# Altium integrated library Linear Technology Power Management uModule Regulators.IntLib: 166 symbols (part 53 of 67)
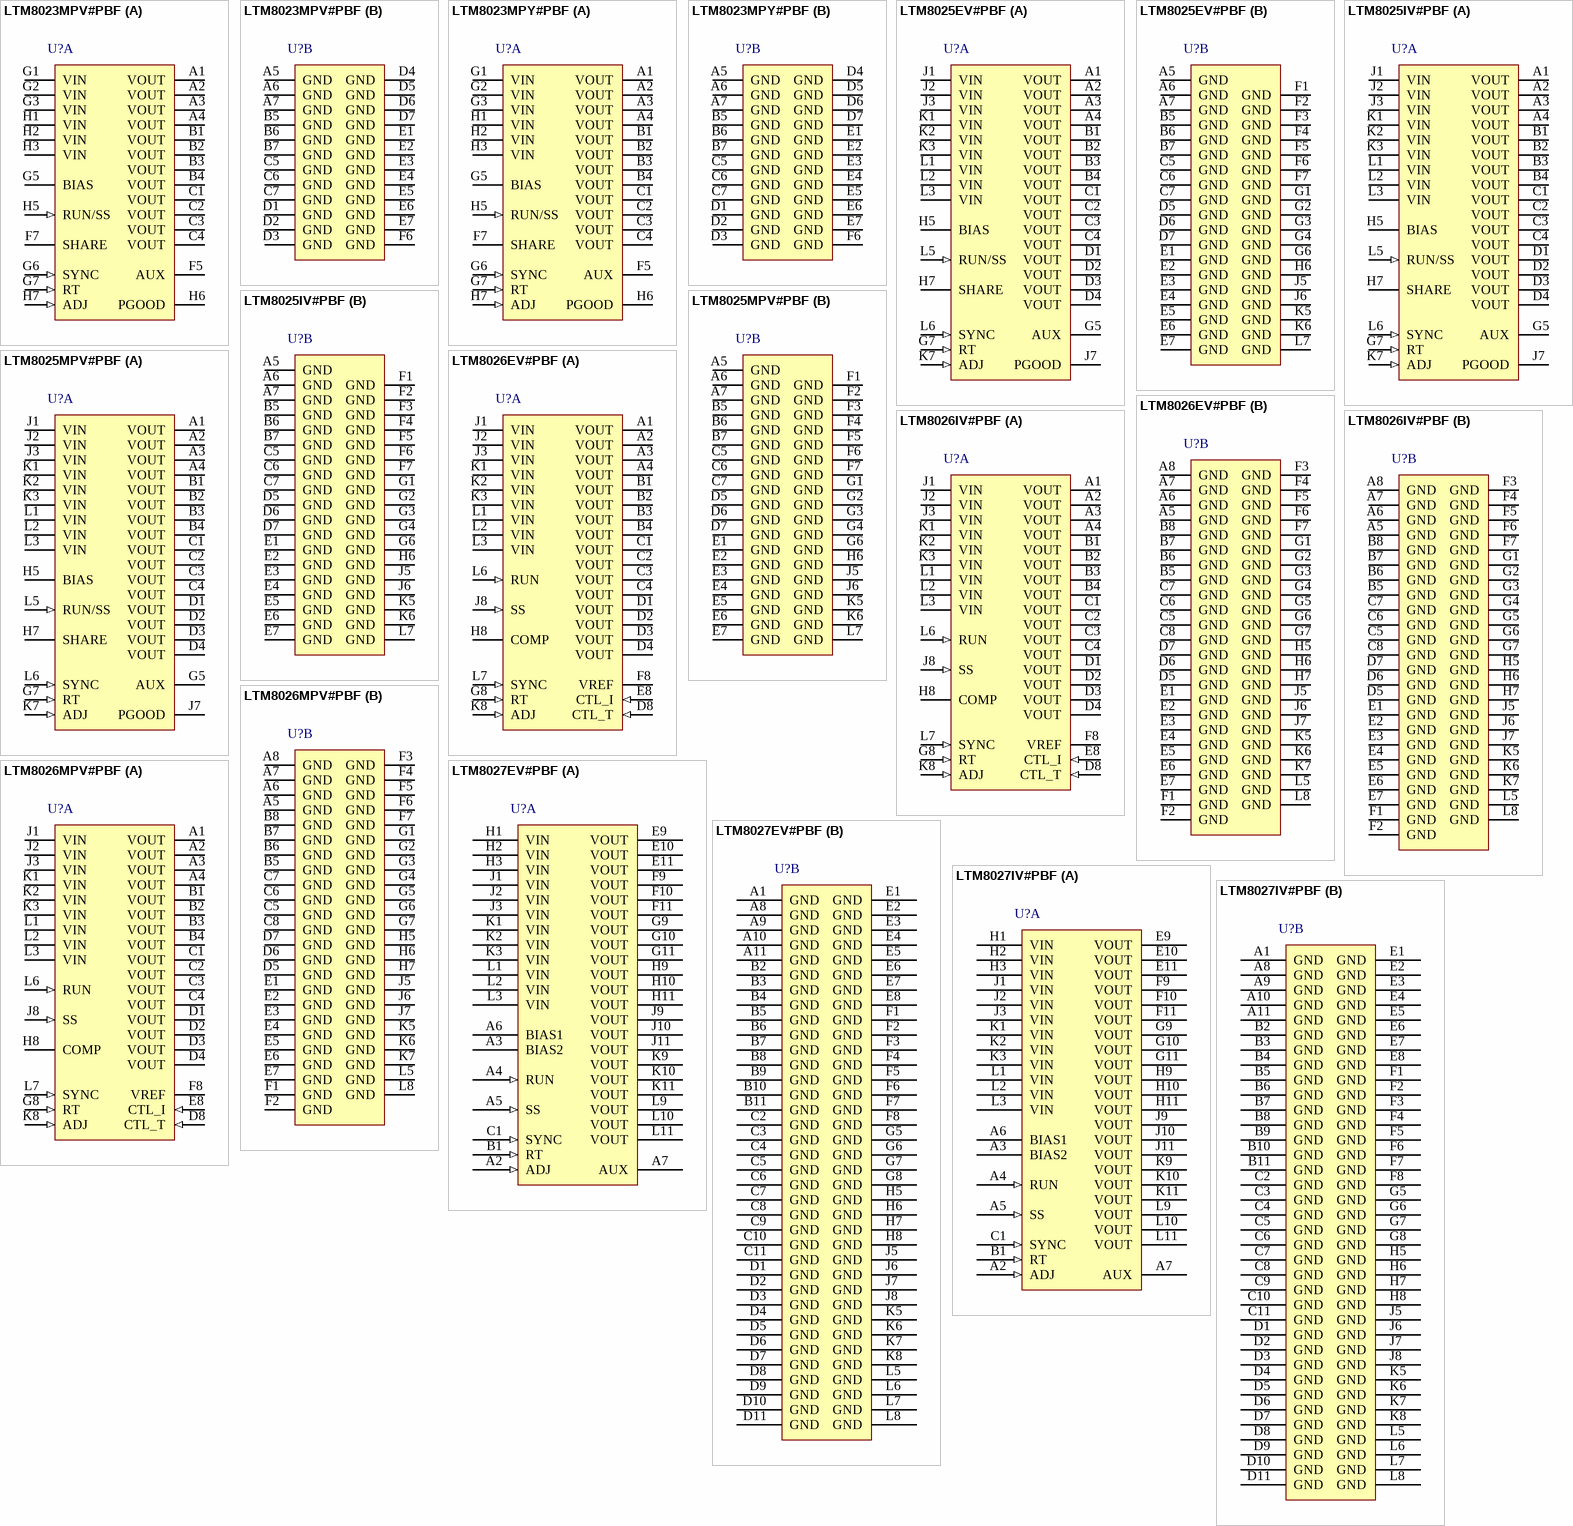
[diagram p79: symbols LTM8023MPV#PBF to LTM8027IV#PBF]

## LTM8026IV#PBF
designator U?
36 VIN, 5 A CVCC Step-Down uModule Regulator, 81-pin LGA, -40 to 125 degC, Pb-Free, Tray; Manufacturer: Linear Technology; PartNumber: LTM8026IV#PBF; Extended Temp: E, I, MP; Frequency Adjust Range: 100kHz - 1MHz; Frequency(kHz): 1000; Ishutdown(uA): 0.1; Isupply(mA): 2; Number of Outputs: 1; Output Current(A): 5; Switch Current(A): 5.6; Synchronous: no; Topology: Buck; Vin Max(V): 36; Vin Min(V): 6; Vout Max(V): 24; Vout Min(V): 1.2; DatasheetVersion: Rev. B; PackageVersion: Rev. A, 01/2013; PackageReference: LGA-81; PackageDescription: 81-Pin LGA, Body 15 x 11.25 mm, Pitch 1.27 mm; Supplier 1: Digi-Key; Supplier Part Number 1: LTM8026IV#PBF-ND; Supplier 2: Farnell; Supplier Part Number 2: 2115894; Supplier 3: Newark; Supplier Part Number 3: 78T1493; Frequency Sync Range: 100kHz - 1MHz; Packing: Tray; RoHS: TRUE; Tracking: no; Mounting Technology: Surface Mount; Code_JEDEC: MO-222; ComponentLink1Description: Manufacturer URL; ComponentLink1URL: http://www.linear.com/; ComponentLink2Description: Datasheet; ComponentLink2URL: http://cds.linear.com/docs/en/datasheet/8026fb.pdf; ComponentLink3Description: Package Specification; ComponentLink3URL: http://cds.linear.com/docs/en/packaging/05081868_A_lga81.pdf
footprint LT-LGA-81-15000X11250X2820_V (LGA, 81-Leads, Body 15x11.25mm, Pitch 1.27mm)
part A pins: A1 VOUT (power) "Power Output Pins. Apply the output filter capacitor and the output load between these pins and GND pins.", A2 VOUT (power) "Power Output Pins. Apply the output filter capacitor and the output load between these pins and GND pins.", A3 VOUT (power) "Power Output Pins. Apply the output filter capacitor and the output load between these pins and GND pins.", A4 VOUT (power) "Power Output Pins. Apply the output filter capacitor and the output load between these pins and GND pins.", B1 VOUT (power) "Power Output Pins. Apply the output filter capacitor and the output load between these pins and GND pins.", B2 VOUT (power) "Power Output Pins. Apply the output filter capacitor and the output load between these pins and GND pins.", B3 VOUT (power) "Power Output Pins. Apply the output filter capacitor and the output load between these pins and GND pins.", B4 VOUT (power) "Power Output Pins. Apply the output filter capacitor and the output load between these pins and GND pins.", C1 VOUT (power) "Power Output Pins. Apply the output filter capacitor and the output load between these pins and GND pins.", C2 VOUT (power) "Power Output Pins. Apply the output filter capacitor and the output load between these pins and GND pins.", C3 VOUT (power) "Power Output Pins. Apply the output filter capacitor and the output load between these pins and GND pins.", C4 VOUT (power) "Power Output Pins. Apply the output filter capacitor and the output load between these pins and GND pins.", D1 VOUT (power) "Power Output Pins. Apply the output filter capacitor and the output load between these pins and GND pins.", D2 VOUT (power) "Power Output Pins. Apply the output filter capacitor and the output load between these pins and GND pins.", D3 VOUT (power) "Power Output Pins. Apply the output filter capacitor and the output load between these pins and GND pins.", D4 VOUT (power) "Power Output Pins. Apply the output filter capacitor and the output load between these pins and GND pins.", D8 CTL_T (in) "Connect a resistor/NTC thermistor network to the CTL_T pin to reduce the maximum regulated output current of the LTM8026 in response to temperature. The maximum control voltage is 1.5V. If this function is not used, tie this (See Datasheet)", E8 CTL_I (in) "The CTL_I pin reduces the maximum regulated output current of the LTM8026. The maximum control voltage is 1.5V. If this function is not used, tie this pin to VREF .", F8 VREF "Buffered 2V Reference Capable of 0.5mA Drive.", G8 RT (in) "The RT pin is used to program the switching frequency of the LTM8026 by connecting a resistor from this pin to ground. The Applications Information section of the data sheet includes a table to determine the resistance value (See Datasheet)", H8 COMP "Compensation Pin. This pin is generally not used. The LTM8026 is internally compensated, but some rare situations may arise that require a modification to the control loop. This pin connects directly to the PWM comparator of (See Datasheet)", J1 VIN (power) "The VIN pins supply current to the LTM8026’s internal regulator and to the internal power switches. These pins must be locally bypassed with an external, low ESR capacitor; see Table 1 for recommended values.", J2 VIN (power) "The VIN pins supply current to the LTM8026’s internal regulator and to the internal power switches. These pins must be locally bypassed with an external, low ESR capacitor; see Table 1 for recommended values.", J3 VIN (power) "The VIN pins supply current to the LTM8026’s internal regulator and to the internal power switches. These pins must be locally bypassed with an external, low ESR capacitor; see Table 1 for recommended values.", J8 SS (in) "The Soft-Start Pin. Place an external capacitor to ground to limit the regulated current during start-up conditions. The soft-start pin has an 11uA charging current.", K1 VIN (power) "The VIN pins supply current to the LTM8026’s internal regulator and to the internal power switches. These pins must be locally bypassed with an external, low ESR capacitor; see Table 1 for recommended values.", K2 VIN (power) "The VIN pins supply current to the LTM8026’s internal regulator and to the internal power switches. These pins must be locally bypassed with an external, low ESR capacitor; see Table 1 for recommended values.", K3 VIN (power) "The VIN pins supply current to the LTM8026’s internal regulator and to the internal power switches. These pins must be locally bypassed with an external, low ESR capacitor; see Table 1 for recommended values.", K8 ADJ (in) "The LTM8026 regulates its ADJ pin to 1.19V. Connect the adjust resistor from this pin to ground", L1 VIN (power) "The VIN pins supply current to the LTM8026’s internal regulator and to the internal power switches. These pins must be locally bypassed with an external, low ESR capacitor; see Table 1 for recommended values.", L2 VIN (power) "The VIN pins supply current to the LTM8026’s internal regulator and to the internal power switches. These pins must be locally bypassed with an external, low ESR capacitor; see Table 1 for recommended values.", L3 VIN (power) "The VIN pins supply current to the LTM8026’s internal regulator and to the internal power switches. These pins must be locally bypassed with an external, low ESR capacitor; see Table 1 for recommended values.", L6 RUN (in) "The RUN pin acts as an enable pin and turns on the internal circuitry. The RUN pin is internally clamped, so it may be pulled up to a voltage source that is higher than the absolute maximum voltage of 6V through a resistor, (See Datasheet)", L7 SYNC (in) "Frequency Synchronization Pin. This pin allows the switching frequency to be synchronized to an external clock. The RT resistor should be chosen to operate the internal clock at 20% lower than the SYNC pulse frequency. This (See Datasheet)"
part B pins: A5 GND (power) "Tie these GND pins to a local ground plane below the LTM8026 and the circuit components. In most applications, the bulk of the heat flow out of the LTM8026 is through these pads, so the printed circuit design has a large (See Datasheet)", A6 GND (power) "Tie these GND pins to a local ground plane below the LTM8026 and the circuit components. In most applications, the bulk of the heat flow out of the LTM8026 is through these pads, so the printed circuit design has a large (See Datasheet)", A7 GND (power) "Tie these GND pins to a local ground plane below the LTM8026 and the circuit components. In most applications, the bulk of the heat flow out of the LTM8026 is through these pads, so the printed circuit design has a large (See Datasheet)", A8 GND (power) "Tie these GND pins to a local ground plane below the LTM8026 and the circuit components. In most applications, the bulk of the heat flow out of the LTM8026 is through these pads, so the printed circuit design has a large (See Datasheet)", B5 GND (power) "Tie these GND pins to a local ground plane below the LTM8026 and the circuit components. In most applications, the bulk of the heat flow out of the LTM8026 is through these pads, so the printed circuit design has a large (See Datasheet)", B6 GND (power) "Tie these GND pins to a local ground plane below the LTM8026 and the circuit components. In most applications, the bulk of the heat flow out of the LTM8026 is through these pads, so the printed circuit design has a large (See Datasheet)", B7 GND (power) "Tie these GND pins to a local ground plane below the LTM8026 and the circuit components. In most applications, the bulk of the heat flow out of the LTM8026 is through these pads, so the printed circuit design has a large (See Datasheet)", B8 GND (power) "Tie these GND pins to a local ground plane below the LTM8026 and the circuit components. In most applications, the bulk of the heat flow out of the LTM8026 is through these pads, so the printed circuit design has a large (See Datasheet)", C5 GND (power) "Tie these GND pins to a local ground plane below the LTM8026 and the circuit components. In most applications, the bulk of the heat flow out of the LTM8026 is through these pads, so the printed circuit design has a large (See Datasheet)", C6 GND (power) "Tie these GND pins to a local ground plane below the LTM8026 and the circuit components. In most applications, the bulk of the heat flow out of the LTM8026 is through these pads, so the printed circuit design has a large (See Datasheet)", C7 GND (power) "Tie these GND pins to a local ground plane below the LTM8026 and the circuit components. In most applications, the bulk of the heat flow out of the LTM8026 is through these pads, so the printed circuit design has a large (See Datasheet)", C8 GND (power) "Tie these GND pins to a local ground plane below the LTM8026 and the circuit components. In most applications, the bulk of the heat flow out of the LTM8026 is through these pads, so the printed circuit design has a large (See Datasheet)", D5 GND (power) "Tie these GND pins to a local ground plane below the LTM8026 and the circuit components. In most applications, the bulk of the heat flow out of the LTM8026 is through these pads, so the printed circuit design has a large (See Datasheet)", D6 GND (power) "Tie these GND pins to a local ground plane below the LTM8026 and the circuit components. In most applications, the bulk of the heat flow out of the LTM8026 is through these pads, so the printed circuit design has a large (See Datasheet)", D7 GND (power) "Tie these GND pins to a local ground plane below the LTM8026 and the circuit components. In most applications, the bulk of the heat flow out of the LTM8026 is through these pads, so the printed circuit design has a large (See Datasheet)", E1 GND (power) "Tie these GND pins to a local ground plane below the LTM8026 and the circuit components. In most applications, the bulk of the heat flow out of the LTM8026 is through these pads, so the printed circuit design has a large (See Datasheet)", E2 GND (power) "Tie these GND pins to a local ground plane below the LTM8026 and the circuit components. In most applications, the bulk of the heat flow out of the LTM8026 is through these pads, so the printed circuit design has a large (See Datasheet)", E3 GND (power) "Tie these GND pins to a local ground plane below the LTM8026 and the circuit components. In most applications, the bulk of the heat flow out of the LTM8026 is through these pads, so the printed circuit design has a large (See Datasheet)", E4 GND (power) "Tie these GND pins to a local ground plane below the LTM8026 and the circuit components. In most applications, the bulk of the heat flow out of the LTM8026 is through these pads, so the printed circuit design has a large (See Datasheet)", E5 GND (power) "Tie these GND pins to a local ground plane below the LTM8026 and the circuit components. In most applications, the bulk of the heat flow out of the LTM8026 is through these pads, so the printed circuit design has a large (See Datasheet)", E6 GND (power) "Tie these GND pins to a local ground plane below the LTM8026 and the circuit components. In most applications, the bulk of the heat flow out of the LTM8026 is through these pads, so the printed circuit design has a large (See Datasheet)", E7 GND (power) "Tie these GND pins to a local ground plane below the LTM8026 and the circuit components. In most applications, the bulk of the heat flow out of the LTM8026 is through these pads, so the printed circuit design has a large (See Datasheet)", F1 GND (power) "Tie these GND pins to a local ground plane below the LTM8026 and the circuit components. In most applications, the bulk of the heat flow out of the LTM8026 is through these pads, so the printed circuit design has a large (See Datasheet)", F2 GND (power) "Tie these GND pins to a local ground plane below the LTM8026 and the circuit components. In most applications, the bulk of the heat flow out of the LTM8026 is through these pads, so the printed circuit design has a large (See Datasheet)", F3 GND (power) "Tie these GND pins to a local ground plane below the LTM8026 and the circuit components. In most applications, the bulk of the heat flow out of the LTM8026 is through these pads, so the printed circuit design has a large (See Datasheet)", F4 GND (power) "Tie these GND pins to a local ground plane below the LTM8026 and the circuit components. In most applications, the bulk of the heat flow out of the LTM8026 is through these pads, so the printed circuit design has a large (See Datasheet)", F5 GND (power) "Tie these GND pins to a local ground plane below the LTM8026 and the circuit components. In most applications, the bulk of the heat flow out of the LTM8026 is through these pads, so the printed circuit design has a large (See Datasheet)", F6 GND (power) "Tie these GND pins to a local ground plane below the LTM8026 and the circuit components. In most applications, the bulk of the heat flow out of the LTM8026 is through these pads, so the printed circuit design has a large (See Datasheet)", F7 GND (power) "Tie these GND pins to a local ground plane below the LTM8026 and the circuit components. In most applications, the bulk of the heat flow out of the LTM8026 is through these pads, so the printed circuit design has a large (See Datasheet)", G1 GND (power) "Tie these GND pins to a local ground plane below the LTM8026 and the circuit components. In most applications, the bulk of the heat flow out of the LTM8026 is through these pads, so the printed circuit design has a large (See Datasheet)", G2 GND (power) "Tie these GND pins to a local ground plane below the LTM8026 and the circuit components. In most applications, the bulk of the heat flow out of the LTM8026 is through these pads, so the printed circuit design has a large (See Datasheet)", G3 GND (power) "Tie these GND pins to a local ground plane below the LTM8026 and the circuit components. In most applications, the bulk of the heat flow out of the LTM8026 is through these pads, so the printed circuit design has a large (See Datasheet)", G4 GND (power) "Tie these GND pins to a local ground plane below the LTM8026 and the circuit components. In most applications, the bulk of the heat flow out of the LTM8026 is through these pads, so the printed circuit design has a large (See Datasheet)", G5 GND (power) "Tie these GND pins to a local ground plane below the LTM8026 and the circuit components. In most applications, the bulk of the heat flow out of the LTM8026 is through these pads, so the printed circuit design has a large (See Datasheet)", G6 GND (power) "Tie these GND pins to a local ground plane below the LTM8026 and the circuit components. In most applications, the bulk of the heat flow out of the LTM8026 is through these pads, so the printed circuit design has a large (See Datasheet)", G7 GND (power) "Tie these GND pins to a local ground plane below the LTM8026 and the circuit components. In most applications, the bulk of the heat flow out of the LTM8026 is through these pads, so the printed circuit design has a large (See Datasheet)", H5 GND (power) "Tie these GND pins to a local ground plane below the LTM8026 and the circuit components. In most applications, the bulk of the heat flow out of the LTM8026 is through these pads, so the printed circuit design has a large (See Datasheet)", H6 GND (power) "Tie these GND pins to a local ground plane below the LTM8026 and the circuit components. In most applications, the bulk of the heat flow out of the LTM8026 is through these pads, so the printed circuit design has a large (See Datasheet)", H7 GND (power) "Tie these GND pins to a local ground plane below the LTM8026 and the circuit components. In most applications, the bulk of the heat flow out of the LTM8026 is through these pads, so the printed circuit design has a large (See Datasheet)", J5 GND (power) "Tie these GND pins to a local ground plane below the LTM8026 and the circuit components. In most applications, the bulk of the heat flow out of the LTM8026 is through these pads, so the printed circuit design has a large (See Datasheet)", J6 GND (power) "Tie these GND pins to a local ground plane below the LTM8026 and the circuit components. In most applications, the bulk of the heat flow out of the LTM8026 is through these pads, so the printed circuit design has a large (See Datasheet)", J7 GND (power) "Tie these GND pins to a local ground plane below the LTM8026 and the circuit components. In most applications, the bulk of the heat flow out of the LTM8026 is through these pads, so the printed circuit design has a large (See Datasheet)", K5 GND (power) "Tie these GND pins to a local ground plane below the LTM8026 and the circuit components. In most applications, the bulk of the heat flow out of the LTM8026 is through these pads, so the printed circuit design has a large (See Datasheet)", K6 GND (power) "Tie these GND pins to a local ground plane below the LTM8026 and the circuit components. In most applications, the bulk of the heat flow out of the LTM8026 is through these pads, so the printed circuit design has a large (See Datasheet)", K7 GND (power) "Tie these GND pins to a local ground plane below the LTM8026 and the circuit components. In most applications, the bulk of the heat flow out of the LTM8026 is through these pads, so the printed circuit design has a large (See Datasheet)", L5 GND (power) "Tie these GND pins to a local ground plane below the LTM8026 and the circuit components. In most applications, the bulk of the heat flow out of the LTM8026 is through these pads, so the printed circuit design has a large (See Datasheet)", L8 GND (power) "Tie these GND pins to a local ground plane below the LTM8026 and the circuit components. In most applications, the bulk of the heat flow out of the LTM8026 is through these pads, so the printed circuit design has a large (See Datasheet)"

## LTM8026MPV#PBF
designator U?
36 VIN, 5 A CVCC Step-Down uModule Regulator, 81-pin LGA, -55 to 125 degC, Pb-Free, Tray; Manufacturer: Linear Technology; PartNumber: LTM8026MPV#PBF; Extended Temp: E, I, MP; Frequency Adjust Range: 100kHz - 1MHz; Frequency(kHz): 1000; Ishutdown(uA): 0.1; Isupply(mA): 2; Number of Outputs: 1; Output Current(A): 5; Switch Current(A): 5.6; Synchronous: no; Topology: Buck; Vin Max(V): 36; Vin Min(V): 6; Vout Max(V): 24; Vout Min(V): 1.2; DatasheetVersion: Rev. B; PackageVersion: Rev. A, 01/2013; PackageReference: LGA-81; PackageDescription: 81-Pin LGA, Body 15 x 11.25 mm, Pitch 1.27 mm; Supplier 1: Digi-Key; Supplier Part Number 1: LTM8026MPV#PBF-ND; Supplier 2: Newark; Supplier Part Number 2: 24W5385; Frequency Sync Range: 100kHz - 1MHz; Packing: Tray; RoHS: TRUE; Tracking: no; Mounting Technology: Surface Mount; Code_JEDEC: MO-222; ComponentLink1Description: Manufacturer URL; ComponentLink1URL: http://www.linear.com/; ComponentLink2Description: Datasheet; ComponentLink2URL: http://cds.linear.com/docs/en/datasheet/8026fb.pdf; ComponentLink3Description: Package Specification; ComponentLink3URL: http://cds.linear.com/docs/en/packaging/05081868_A_lga81.pdf
footprint LT-LGA-81-15000X11250X2820_V (LGA, 81-Leads, Body 15x11.25mm, Pitch 1.27mm)
part A pins: A1 VOUT (power) "Power Output Pins. Apply the output filter capacitor and the output load between these pins and GND pins.", A2 VOUT (power) "Power Output Pins. Apply the output filter capacitor and the output load between these pins and GND pins.", A3 VOUT (power) "Power Output Pins. Apply the output filter capacitor and the output load between these pins and GND pins.", A4 VOUT (power) "Power Output Pins. Apply the output filter capacitor and the output load between these pins and GND pins.", B1 VOUT (power) "Power Output Pins. Apply the output filter capacitor and the output load between these pins and GND pins.", B2 VOUT (power) "Power Output Pins. Apply the output filter capacitor and the output load between these pins and GND pins.", B3 VOUT (power) "Power Output Pins. Apply the output filter capacitor and the output load between these pins and GND pins.", B4 VOUT (power) "Power Output Pins. Apply the output filter capacitor and the output load between these pins and GND pins.", C1 VOUT (power) "Power Output Pins. Apply the output filter capacitor and the output load between these pins and GND pins.", C2 VOUT (power) "Power Output Pins. Apply the output filter capacitor and the output load between these pins and GND pins.", C3 VOUT (power) "Power Output Pins. Apply the output filter capacitor and the output load between these pins and GND pins.", C4 VOUT (power) "Power Output Pins. Apply the output filter capacitor and the output load between these pins and GND pins.", D1 VOUT (power) "Power Output Pins. Apply the output filter capacitor and the output load between these pins and GND pins.", D2 VOUT (power) "Power Output Pins. Apply the output filter capacitor and the output load between these pins and GND pins.", D3 VOUT (power) "Power Output Pins. Apply the output filter capacitor and the output load between these pins and GND pins.", D4 VOUT (power) "Power Output Pins. Apply the output filter capacitor and the output load between these pins and GND pins.", D8 CTL_T (in) "Connect a resistor/NTC thermistor network to the CTL_T pin to reduce the maximum regulated output current of the LTM8026 in response to temperature. The maximum control voltage is 1.5V. If this function is not used, tie this (See Datasheet)", E8 CTL_I (in) "The CTL_I pin reduces the maximum regulated output current of the LTM8026. The maximum control voltage is 1.5V. If this function is not used, tie this pin to VREF .", F8 VREF "Buffered 2V Reference Capable of 0.5mA Drive.", G8 RT (in) "The RT pin is used to program the switching frequency of the LTM8026 by connecting a resistor from this pin to ground. The Applications Information section of the data sheet includes a table to determine the resistance value (See Datasheet)", H8 COMP "Compensation Pin. This pin is generally not used. The LTM8026 is internally compensated, but some rare situations may arise that require a modification to the control loop. This pin connects directly to the PWM comparator of (See Datasheet)", J1 VIN (power) "The VIN pins supply current to the LTM8026’s internal regulator and to the internal power switches. These pins must be locally bypassed with an external, low ESR capacitor; see Table 1 for recommended values.", J2 VIN (power) "The VIN pins supply current to the LTM8026’s internal regulator and to the internal power switches. These pins must be locally bypassed with an external, low ESR capacitor; see Table 1 for recommended values.", J3 VIN (power) "The VIN pins supply current to the LTM8026’s internal regulator and to the internal power switches. These pins must be locally bypassed with an external, low ESR capacitor; see Table 1 for recommended values.", J8 SS (in) "The Soft-Start Pin. Place an external capacitor to ground to limit the regulated current during start-up conditions. The soft-start pin has an 11uA charging current.", K1 VIN (power) "The VIN pins supply current to the LTM8026’s internal regulator and to the internal power switches. These pins must be locally bypassed with an external, low ESR capacitor; see Table 1 for recommended values.", K2 VIN (power) "The VIN pins supply current to the LTM8026’s internal regulator and to the internal power switches. These pins must be locally bypassed with an external, low ESR capacitor; see Table 1 for recommended values.", K3 VIN (power) "The VIN pins supply current to the LTM8026’s internal regulator and to the internal power switches. These pins must be locally bypassed with an external, low ESR capacitor; see Table 1 for recommended values.", K8 ADJ (in) "The LTM8026 regulates its ADJ pin to 1.19V. Connect the adjust resistor from this pin to ground", L1 VIN (power) "The VIN pins supply current to the LTM8026’s internal regulator and to the internal power switches. These pins must be locally bypassed with an external, low ESR capacitor; see Table 1 for recommended values.", L2 VIN (power) "The VIN pins supply current to the LTM8026’s internal regulator and to the internal power switches. These pins must be locally bypassed with an external, low ESR capacitor; see Table 1 for recommended values.", L3 VIN (power) "The VIN pins supply current to the LTM8026’s internal regulator and to the internal power switches. These pins must be locally bypassed with an external, low ESR capacitor; see Table 1 for recommended values.", L6 RUN (in) "The RUN pin acts as an enable pin and turns on the internal circuitry. The RUN pin is internally clamped, so it may be pulled up to a voltage source that is higher than the absolute maximum voltage of 6V through a resistor, (See Datasheet)", L7 SYNC (in) "Frequency Synchronization Pin. This pin allows the switching frequency to be synchronized to an external clock. The RT resistor should be chosen to operate the internal clock at 20% lower than the SYNC pulse frequency. This (See Datasheet)"
part B pins: A5 GND (power) "Tie these GND pins to a local ground plane below the LTM8026 and the circuit components. In most applications, the bulk of the heat flow out of the LTM8026 is through these pads, so the printed circuit design has a large (See Datasheet)", A6 GND (power) "Tie these GND pins to a local ground plane below the LTM8026 and the circuit components. In most applications, the bulk of the heat flow out of the LTM8026 is through these pads, so the printed circuit design has a large (See Datasheet)", A7 GND (power) "Tie these GND pins to a local ground plane below the LTM8026 and the circuit components. In most applications, the bulk of the heat flow out of the LTM8026 is through these pads, so the printed circuit design has a large (See Datasheet)", A8 GND (power) "Tie these GND pins to a local ground plane below the LTM8026 and the circuit components. In most applications, the bulk of the heat flow out of the LTM8026 is through these pads, so the printed circuit design has a large (See Datasheet)", B5 GND (power) "Tie these GND pins to a local ground plane below the LTM8026 and the circuit components. In most applications, the bulk of the heat flow out of the LTM8026 is through these pads, so the printed circuit design has a large (See Datasheet)", B6 GND (power) "Tie these GND pins to a local ground plane below the LTM8026 and the circuit components. In most applications, the bulk of the heat flow out of the LTM8026 is through these pads, so the printed circuit design has a large (See Datasheet)", B7 GND (power) "Tie these GND pins to a local ground plane below the LTM8026 and the circuit components. In most applications, the bulk of the heat flow out of the LTM8026 is through these pads, so the printed circuit design has a large (See Datasheet)", B8 GND (power) "Tie these GND pins to a local ground plane below the LTM8026 and the circuit components. In most applications, the bulk of the heat flow out of the LTM8026 is through these pads, so the printed circuit design has a large (See Datasheet)", C5 GND (power) "Tie these GND pins to a local ground plane below the LTM8026 and the circuit components. In most applications, the bulk of the heat flow out of the LTM8026 is through these pads, so the printed circuit design has a large (See Datasheet)", C6 GND (power) "Tie these GND pins to a local ground plane below the LTM8026 and the circuit components. In most applications, the bulk of the heat flow out of the LTM8026 is through these pads, so the printed circuit design has a large (See Datasheet)", C7 GND (power) "Tie these GND pins to a local ground plane below the LTM8026 and the circuit components. In most applications, the bulk of the heat flow out of the LTM8026 is through these pads, so the printed circuit design has a large (See Datasheet)", C8 GND (power) "Tie these GND pins to a local ground plane below the LTM8026 and the circuit components. In most applications, the bulk of the heat flow out of the LTM8026 is through these pads, so the printed circuit design has a large (See Datasheet)", D5 GND (power) "Tie these GND pins to a local ground plane below the LTM8026 and the circuit components. In most applications, the bulk of the heat flow out of the LTM8026 is through these pads, so the printed circuit design has a large (See Datasheet)", D6 GND (power) "Tie these GND pins to a local ground plane below the LTM8026 and the circuit components. In most applications, the bulk of the heat flow out of the LTM8026 is through these pads, so the printed circuit design has a large (See Datasheet)", D7 GND (power) "Tie these GND pins to a local ground plane below the LTM8026 and the circuit components. In most applications, the bulk of the heat flow out of the LTM8026 is through these pads, so the printed circuit design has a large (See Datasheet)", E1 GND (power) "Tie these GND pins to a local ground plane below the LTM8026 and the circuit components. In most applications, the bulk of the heat flow out of the LTM8026 is through these pads, so the printed circuit design has a large (See Datasheet)", E2 GND (power) "Tie these GND pins to a local ground plane below the LTM8026 and the circuit components. In most applications, the bulk of the heat flow out of the LTM8026 is through these pads, so the printed circuit design has a large (See Datasheet)", E3 GND (power) "Tie these GND pins to a local ground plane below the LTM8026 and the circuit components. In most applications, the bulk of the heat flow out of the LTM8026 is through these pads, so the printed circuit design has a large (See Datasheet)", E4 GND (power) "Tie these GND pins to a local ground plane below the LTM8026 and the circuit components. In most applications, the bulk of the heat flow out of the LTM8026 is through these pads, so the printed circuit design has a large (See Datasheet)", E5 GND (power) "Tie these GND pins to a local ground plane below the LTM8026 and the circuit components. In most applications, the bulk of the heat flow out of the LTM8026 is through these pads, so the printed circuit design has a large (See Datasheet)", E6 GND (power) "Tie these GND pins to a local ground plane below the LTM8026 and the circuit components. In most applications, the bulk of the heat flow out of the LTM8026 is through these pads, so the printed circuit design has a large (See Datasheet)", E7 GND (power) "Tie these GND pins to a local ground plane below the LTM8026 and the circuit components. In most applications, the bulk of the heat flow out of the LTM8026 is through these pads, so the printed circuit design has a large (See Datasheet)", F1 GND (power) "Tie these GND pins to a local ground plane below the LTM8026 and the circuit components. In most applications, the bulk of the heat flow out of the LTM8026 is through these pads, so the printed circuit design has a large (See Datasheet)", F2 GND (power) "Tie these GND pins to a local ground plane below the LTM8026 and the circuit components. In most applications, the bulk of the heat flow out of the LTM8026 is through these pads, so the printed circuit design has a large (See Datasheet)", F3 GND (power) "Tie these GND pins to a local ground plane below the LTM8026 and the circuit components. In most applications, the bulk of the heat flow out of the LTM8026 is through these pads, so the printed circuit design has a large (See Datasheet)", F4 GND (power) "Tie these GND pins to a local ground plane below the LTM8026 and the circuit components. In most applications, the bulk of the heat flow out of the LTM8026 is through these pads, so the printed circuit design has a large (See Datasheet)", F5 GND (power) "Tie these GND pins to a local ground plane below the LTM8026 and the circuit components. In most applications, the bulk of the heat flow out of the LTM8026 is through these pads, so the printed circuit design has a large (See Datasheet)", F6 GND (power) "Tie these GND pins to a local ground plane below the LTM8026 and the circuit components. In most applications, the bulk of the heat flow out of the LTM8026 is through these pads, so the printed circuit design has a large (See Datasheet)", F7 GND (power) "Tie these GND pins to a local ground plane below the LTM8026 and the circuit components. In most applications, the bulk of the heat flow out of the LTM8026 is through these pads, so the printed circuit design has a large (See Datasheet)", G1 GND (power) "Tie these GND pins to a local ground plane below the LTM8026 and the circuit components. In most applications, the bulk of the heat flow out of the LTM8026 is through these pads, so the printed circuit design has a large (See Datasheet)", G2 GND (power) "Tie these GND pins to a local ground plane below the LTM8026 and the circuit components. In most applications, the bulk of the heat flow out of the LTM8026 is through these pads, so the printed circuit design has a large (See Datasheet)", G3 GND (power) "Tie these GND pins to a local ground plane below the LTM8026 and the circuit components. In most applications, the bulk of the heat flow out of the LTM8026 is through these pads, so the printed circuit design has a large (See Datasheet)", G4 GND (power) "Tie these GND pins to a local ground plane below the LTM8026 and the circuit components. In most applications, the bulk of the heat flow out of the LTM8026 is through these pads, so the printed circuit design has a large (See Datasheet)", G5 GND (power) "Tie these GND pins to a local ground plane below the LTM8026 and the circuit components. In most applications, the bulk of the heat flow out of the LTM8026 is through these pads, so the printed circuit design has a large (See Datasheet)", G6 GND (power) "Tie these GND pins to a local ground plane below the LTM8026 and the circuit components. In most applications, the bulk of the heat flow out of the LTM8026 is through these pads, so the printed circuit design has a large (See Datasheet)", G7 GND (power) "Tie these GND pins to a local ground plane below the LTM8026 and the circuit components. In most applications, the bulk of the heat flow out of the LTM8026 is through these pads, so the printed circuit design has a large (See Datasheet)", H5 GND (power) "Tie these GND pins to a local ground plane below the LTM8026 and the circuit components. In most applications, the bulk of the heat flow out of the LTM8026 is through these pads, so the printed circuit design has a large (See Datasheet)", H6 GND (power) "Tie these GND pins to a local ground plane below the LTM8026 and the circuit components. In most applications, the bulk of the heat flow out of the LTM8026 is through these pads, so the printed circuit design has a large (See Datasheet)", H7 GND (power) "Tie these GND pins to a local ground plane below the LTM8026 and the circuit components. In most applications, the bulk of the heat flow out of the LTM8026 is through these pads, so the printed circuit design has a large (See Datasheet)", J5 GND (power) "Tie these GND pins to a local ground plane below the LTM8026 and the circuit components. In most applications, the bulk of the heat flow out of the LTM8026 is through these pads, so the printed circuit design has a large (See Datasheet)", J6 GND (power) "Tie these GND pins to a local ground plane below the LTM8026 and the circuit components. In most applications, the bulk of the heat flow out of the LTM8026 is through these pads, so the printed circuit design has a large (See Datasheet)", J7 GND (power) "Tie these GND pins to a local ground plane below the LTM8026 and the circuit components. In most applications, the bulk of the heat flow out of the LTM8026 is through these pads, so the printed circuit design has a large (See Datasheet)", K5 GND (power) "Tie these GND pins to a local ground plane below the LTM8026 and the circuit components. In most applications, the bulk of the heat flow out of the LTM8026 is through these pads, so the printed circuit design has a large (See Datasheet)", K6 GND (power) "Tie these GND pins to a local ground plane below the LTM8026 and the circuit components. In most applications, the bulk of the heat flow out of the LTM8026 is through these pads, so the printed circuit design has a large (See Datasheet)", K7 GND (power) "Tie these GND pins to a local ground plane below the LTM8026 and the circuit components. In most applications, the bulk of the heat flow out of the LTM8026 is through these pads, so the printed circuit design has a large (See Datasheet)", L5 GND (power) "Tie these GND pins to a local ground plane below the LTM8026 and the circuit components. In most applications, the bulk of the heat flow out of the LTM8026 is through these pads, so the printed circuit design has a large (See Datasheet)", L8 GND (power) "Tie these GND pins to a local ground plane below the LTM8026 and the circuit components. In most applications, the bulk of the heat flow out of the LTM8026 is through these pads, so the printed circuit design has a large (See Datasheet)"